# EAGLE library part ATTINY*61 (library atmel)
8-bit AVR tiny Microcontroller Status obsolete/discontinued aktiv aktiv aktiv ATtiny261(V) ATtiny461(V) ATtiny861(V) ATtiny261A ATtiny461A ATtiny861A General purpose working registers 32 SRAM 128 B 256 B 512 B 128 B 256 B 512 B Program flash memory 2 kB 4 kB 8 kB 2 kB 4 kB 8 kB EEPROM 128 B 256 B 512 B 128 B 256 B 512 B 8/16-bit Timer/Counter 1 8/10-bit Timer/Counter (high-speed) 1 USART 1 ADC channels 11 ADC resolution 10 bit AC 1 Watchdog 1 General purpose I/O 16 External interrupts 16 Operating voltage 1.8 ... 5.5 V for ATtiny#61V 1.8 ... 5.5 V 2.7 ... 5.5 V for ATtiny#61 Speed grade 0 ... 4 MHz @ 1.8 ... 5.5 V for ATtiny#61V 0 ... 4 MHz @ 1.8 ... 5.5 V 0 ... 10 MHz @ 2.7 ... 5.5 V for ATtiny#61V 0 ... 10 MHz @ 2.7 ... 5.5 V 0 ... 10 MHz @ 2.7 ... 5.5 V for ATtiny#61 0 ... 20 MHz @ 4.5 ... 5.5 V 0 ... 20 MHz @ 4.5 ... 5.5 V for ATtiny#61 Clock options calibrated internal 8 MHz oscillator external crystal oscillator / ceramic resonator external 32.768 kHz low-frequency crystal oscillator internal 128 kHz oscillator high frequency PLL clock external clock input
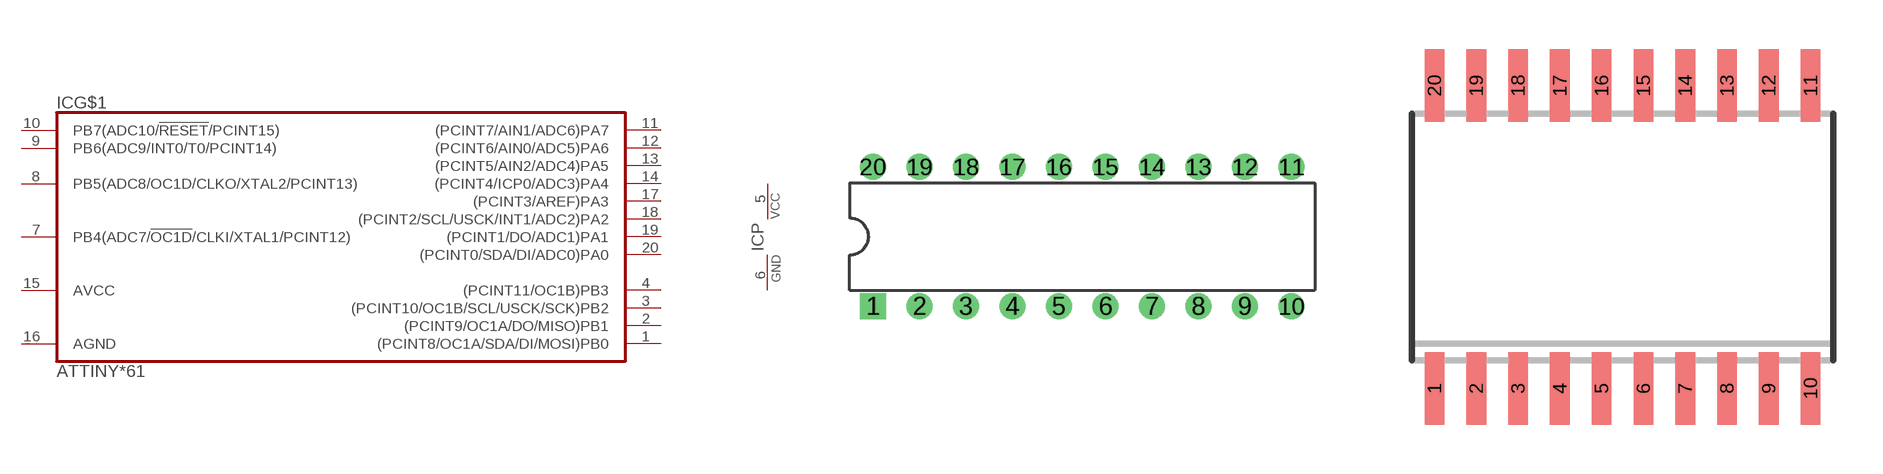
[diagram p94: symbol with the pads of DIL20; footprints DIL20, SO20W]

Designator prefix IC; gates G$1=TINY861 P=PWR

## ATTINY261A-PU, ATTINY461A-PU, ATTINY861A-PU  [DIL20]
1  G$1:(PCINT8/OC1A/SDA/DI/MOSI)PB0
2  G$1:(PCINT9/OC1A/DO/MISO)PB1
3  G$1:(PCINT10/OC1B/SCL/USCK/SCK)PB2
4  G$1:(PCINT11/OC1B)PB3
5  P:VCC  pwr
6  P:GND  pwr
7  G$1:PB4(ADC7/!OC1D!/CLKI/XTAL1/PCINT12)
8  G$1:PB5(ADC8/OC1D/CLKO/XTAL2/PCINT13)
9  G$1:PB6(ADC9/INT0/T0/PCINT14)
10  G$1:PB7(ADC10/!RESET!/PCINT15)
11  G$1:(PCINT7/AIN1/ADC6)PA7
12  G$1:(PCINT6/AIN0/ADC5)PA6
13  G$1:(PCINT5/AIN2/ADC4)PA5
14  G$1:(PCINT4/ICP0/ADC3)PA4
15  G$1:AVCC  pwr
16  G$1:AGND  pas
17  G$1:(PCINT3/AREF)PA3
18  G$1:(PCINT2/SCL/USCK/INT1/ADC2)PA2
19  G$1:(PCINT1/DO/ADC1)PA1
20  G$1:(PCINT0/SDA/DI/ADC0)PA0

## ATTINY261A-SU, ATTINY461A-SU, ATTINY861A-SU  [SO20W]
Pads as for DIL20

## ATTINY261A-XU, ATTINY461A-XU, ATTINY861A-XU  [MO-153AC]
Pads as for DIL20

## ATTINY261A-MU, ATTINY461A-MU, ATTINY861A-MU  [QFN32_5X5_0.50]
2  G$1:(PCINT11/OC1B)PB3
4  P:VCC  pwr
5  P:GND  pwr
7  G$1:PB4(ADC7/!OC1D!/CLKI/XTAL1/PCINT12)
8  G$1:PB5(ADC8/OC1D/CLKO/XTAL2/PCINT13)
10  G$1:PB6(ADC9/INT0/T0/PCINT14)
11  G$1:PB7(ADC10/!RESET!/PCINT15)
13  G$1:(PCINT7/AIN1/ADC6)PA7
14  G$1:(PCINT6/AIN0/ADC5)PA6
15  G$1:(PCINT5/AIN2/ADC4)PA5
17  G$1:(PCINT4/ICP0/ADC3)PA4
18  G$1:AVCC  pwr
21  G$1:AGND  pas
22  G$1:(PCINT3/AREF)PA3
23  G$1:(PCINT2/SCL/USCK/INT1/ADC2)PA2
25  G$1:(PCINT1/DO/ADC1)PA1
26  G$1:(PCINT0/SDA/DI/ADC0)PA0
30  G$1:(PCINT8/OC1A/SDA/DI/MOSI)PB0
31  G$1:(PCINT9/OC1A/DO/MISO)PB1
32  G$1:(PCINT10/OC1B/SCL/USCK/SCK)PB2
EXP  P:GND  pwr

## ATTINY261A-MN  [QFN32_5X5_0.50]
Pads as for QFN32_5X5_0.50

## Footprint DIL20 (pad centres in mm)
DIL package, pin row distance 300mil
drill 0.8 pad 1.4 square: 1 -11.43,-3.81
drill 0.8 pad 1.4: 2 -8.89,-3.81; 3 -6.35,-3.81; 4 -3.81,-3.81; 5 -1.27,-3.81; 6 1.27,-3.81; 7 3.81,-3.81; 8 6.35,-3.81; 9 8.89,-3.81; 10 11.43,-3.81; 11 11.43,3.81; 12 8.89,3.81; 13 6.35,3.81; 14 3.81,3.81; 15 1.27,3.81; 16 -1.27,3.81; 17 -3.81,3.81; 18 -6.35,3.81; 19 -8.89,3.81; 20 -11.43,3.81

## Footprint SO20W (pad centres in mm)
Small Outline IC, 300mil body width, 50mil lead pitch package/pad dimensions according to IPC-SM-782, RLP No. 306A JEDEC: MS-013 AC IPC: SO20W other notations: SO-20W, SOIC20W, SOIC-20W
smd 0.6 x 2.2: 1 -5.715,-4.6; 2 -4.445,-4.6; 3 -3.175,-4.6; 4 -1.905,-4.6; 5 -0.635,-4.6; 6 0.635,-4.6; 7 1.905,-4.6; 8 3.175,-4.6; 9 4.445,-4.6; 10 5.715,-4.6; 11 5.715,4.6; 12 4.445,4.6; 13 3.175,4.6; 14 1.905,4.6; 15 0.635,4.6; 16 -0.635,4.6; 17 -1.905,4.6; 18 -3.175,4.6; 19 -4.445,4.6; 20 -5.715,4.6

## Footprint MO-153AC (pad centres in mm)
Small Shrink Outline Package, 6.5mm x 4.4mm body, 0.65mm lead pitch JEDEC: MO-153, variation AC NXP: TSSOP20 (SOT360) Texas Instruments: PW (R-PDSO-G20) other notations: TSSOP20, TSSOP-20
smd 0.4 x 1.35: 1 -2.925,-2.925; 2 -2.275,-2.925; 3 -1.625,-2.925; 4 -0.975,-2.925; 5 -0.325,-2.925; 6 0.325,-2.925; 7 0.975,-2.925; 8 1.625,-2.925; 9 2.275,-2.925; 10 2.925,-2.925; 11 2.925,2.925; 12 2.275,2.925; 13 1.625,2.925; 14 0.975,2.925; 15 0.325,2.925; 16 -0.325,2.925; 17 -0.975,2.925; 18 -1.625,2.925; 19 -2.275,2.925; 20 -2.925,2.925

## Footprint QFN32_5X5_0.50 (pad centres in mm)
32-Lead Plastic QFN, 5mm x 5mm body, 0.5mm lead pitch, exposed pad ATMEL Code: 32M1-A Micro Lead Frame package (MLF) NXP Code: SOT617
smd 0.8 x 0.3: 1 -2.5,1.75; 2 -2.5,1.25; 3 -2.5,0.75; 4 -2.5,0.25; 5 -2.5,-0.25; 6 -2.5,-0.75; 7 -2.5,-1.25; 8 -2.5,-1.75; 17 2.5,-1.75; 18 2.5,-1.25; 19 2.5,-0.75; 20 2.5,-0.25; 21 2.5,0.25; 22 2.5,0.75; 23 2.5,1.25; 24 2.5,1.75
smd 0.3 x 0.8: 9 -1.75,-2.5; 10 -1.25,-2.5; 11 -0.75,-2.5; 12 -0.25,-2.5; 13 0.25,-2.5; 14 0.75,-2.5; 15 1.25,-2.5; 16 1.75,-2.5; 25 1.75,2.5; 26 1.25,2.5; 27 0.75,2.5; 28 0.25,2.5; 29 -0.25,2.5; 30 -0.75,2.5; 31 -1.25,2.5; 32 -1.75,2.5
smd 3.7 x 3.7: EXP 0,0